# Altium schematic symbol library LTC4359IS8.SchLib: 1 symbol
Pins are listed as number, name and electrical type; pins without a type are passive.

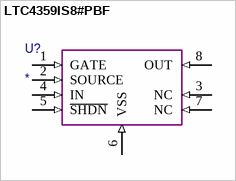
[diagram p0: symbol LTC4359IS8#PBF]

## LTC4359IS8#PBF
designator U?
pins: 1 GATE (in), 2 SOURCE (in), 3 NC (in), 4 IN (in), 5 ~{SHDN} (in), 6 VSS (in), 7 NC (in), 8 OUT (in)